# EAGLE library part LT5511 (library Lasser)
Linear Technology LT551 High Signal Level Upconverting Mixer Up to 3GHz -10dBm LO Drive Level +6dBm 1dB Input Compr.Point 0dB Conversion Gain N=15dB
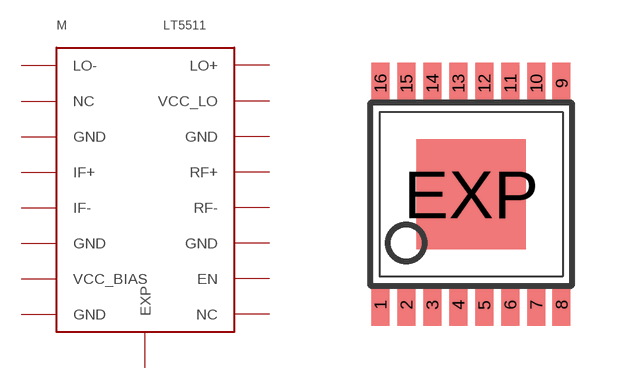
[diagram p10: symbol with the pads of TSSOP16_BA; footprint TSSOP16_BA]

Designator prefix M

## LT5511  [TSSOP16_BA]
1  LO-
2  NC
3  GND
4  IF+
5  IF-
6  GND
7  VCC_BIAS
8  GND
9  NC
10  EN
11  GND
12  RF-
13  RF+
14  GND
15  VCC_LO
16  LO+
EXP  EXP

## Footprint TSSOP16_BA (pad centres in mm)
smd 0.45 x 1.05: 1 -2.275,-2.768; 2 -1.625,-2.768; 3 -0.975,-2.768; 4 -0.325,-2.768; 5 0.325,-2.768; 6 0.975,-2.768; 7 1.625,-2.768; 8 2.26,-2.768; 9 2.26,2.768; 10 1.625,2.768; 11 0.975,2.768; 12 0.325,2.768; 13 -0.325,2.768; 14 -0.975,2.768; 15 -1.625,2.768; 16 -2.275,2.768
smd 2.74 x 2.74: EXP 0,0